# Altium schematic symbol library Fuses.SchLib: 2 symbols
Pins are listed as number, name and electrical type; pins without a type are passive.

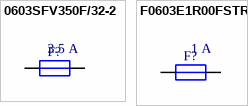
[diagram p0: symbols 0603SFV350F/32-2 to F0603E1R00FSTR]

## 0603SFV350F/32-2
designator F?  Current Rating: 3.5 A  (hidden comment: 0603SFV350F/32-2)
FUSE 0603 3.5A FAST; Manufacturer: TE Connectivity / Raychem; Description: Surface Mount Fuses 32V 3.5A GCERAM 0603; Voltage Rating DC: 32 VDC; Fuse Size / Group: 0603 (1608 metric); Fuse Type: Fast Blow; Interrupt Rating: 35 Amps; Supplier 1: Mouser; Manufacturer Part Number: 0603SFV350F/32-2; RoHS: RoHS Compliant; Category: Surface Mount Fuses; Stock 1: 16912; Pricing 1: 1=0.824, 10=0.621, 100=0.518, 250=0.505, 500=0.427, 1000=0.376, 2500=0.349, 6000=0.337, 12000=0.332 (EUR); Height: 0.51 mm; Length: 1.75 mm; Operating Temperature Range: - 55 C to + 125 C; Packaging: Reel; Product: Surface Mount Fuse; Series: SFV; Width: 0.48 mm; Brand: TE Connectivity / Raychem; Standard Pack Qty: 6000; RoHS - Mouser: Y; Minimum Order Quantity: 1; Reeling: True; ComponentLink1URL: http://www.mouser.com/ds/2/418/NG_CS_CLP00009_A_CLP00009-735180.pdf; ComponentLink1Description: http://www.mouser.com/ds/2/418/NG_CS_CLP00009_A_CLP00009-735180.pdf; Supplier Part Number 1: 650-0603SFV350F/32-2
footprint 0603R_0.45_L (Chip Resistor, 2-Leads, IPC Low Density)
footprint 0603R_0.45_M (Chip Resistor, 2-Leads, IPC Medium Density)
footprint 0603R_0.45_H (Chip Resistor, 2-Leads, IPC Hight Density)
pins: 1, 2

## F0603E1R00FSTR
designator F?  Current Rating: 1 A  (hidden comment: F0603E1R00FSTR)
FUSE 0603 1.0A FAST; Manufacturer: AVX; Description: Surface Mount Fuses 0603 1amp 0.13ohm SMD; Resistance: 0.13 Ohms; Voltage Rating DC: 32 VDC; Fuse Size / Group: 0603 (1608 metric); Fuse Type: Fast Blow; Interrupt Rating: 50 Amps; Supplier 1: Mouser; Manufacturer Part Number: F0603E1R00FSTR; RoHS: RoHS Compliant; Category: Surface Mount Fuses; Stock 1: 6505; Pricing 1: 1=0.256, 50=0.251, 100=0.208, 500=0.173, 1000=0.165, 3000=0.132, 6000=0.128, 9000=0.125 (EUR); Height: 0.63 mm; Length: 1.6 mm; Operating Temperature Range: - 55 C to + 125 C; Packaging: Reel; Product: Surface Mount Fuse; Series: F0603E; Width: 0.81 mm; Brand: AVX; Standard Pack Qty: 3000; Tradename: Accu-Guard II; RoHS - Mouser: Y; Minimum Order Quantity: 1; Reeling: True; ComponentLink1URL: http://www.mouser.com/ds/2/40/accug2-25369.pdf; ComponentLink1Description: http://www.mouser.com/ds/2/40/accug2-25369.pdf; Supplier Part Number 1: 581-F0603E1R00FSTR
footprint 0603R_0.45_L (Chip Resistor, 2-Leads, IPC Low Density)
footprint 0603R_0.45_M (Chip Resistor, 2-Leads, IPC Medium Density)
footprint 0603R_0.45_H (Chip Resistor, 2-Leads, IPC Hight Density)
pins: 1, 2